# EAGLE library part LM723 (library DonB)
LM723 Voltage Regulator
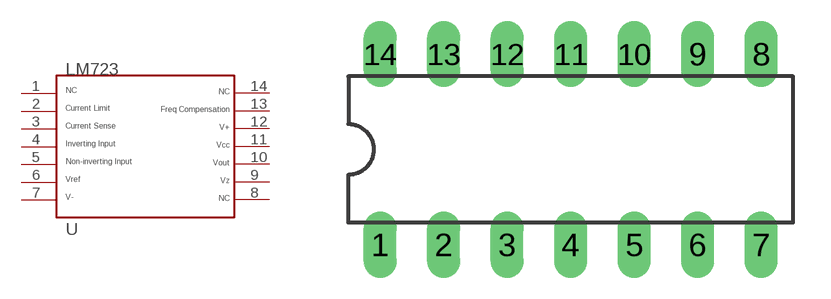
[diagram p8: symbol with the pads of DIL14; footprint DIL14]

Designator prefix -

## LM723  [DIL14]
1  1  nc
2  2  in
3  3  in
4  4  in
5  5  in
6  6  out
7  7  pwr
8  8  nc
9  9  out
10  10  out
11  11  pwr
12  12  pwr
13  13
14  14  nc

## Footprint DIL14 (pad centres in mm)
drill 0.813 long: 1 -7.62,-3.81; 2 -5.08,-3.81; 3 -2.54,-3.81; 4 0,-3.81; 5 2.54,-3.81; 6 5.08,-3.81; 7 7.62,-3.81; 8 7.62,3.81; 9 5.08,3.81; 10 2.54,3.81; 11 0,3.81; 12 -2.54,3.81; 13 -5.08,3.81; 14 -7.62,3.81